# Altium footprint library WE-SPE.PcbLib: 2 footprints
Each footprint in its own frame and in the unit in brackets; x right, y up, seen from the top. Pads: shape width x height; smd on the part's side, far side on the other; paste and mask are expansions set on the pad; w line width, h text height; cw(c..) or ccw(c..) is an arc to the next point about the centre after c.
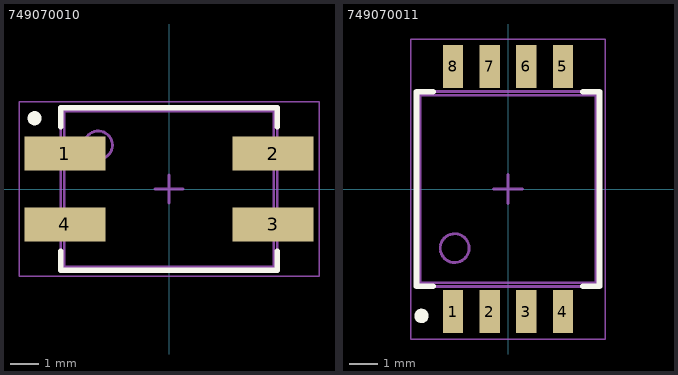
[diagram p0: the footprints below, top view; thin cyan lines are the x and y axes]

## 749070010 [mm] "Single Pair Ethernet"
height 4.6
pads (4):
  rect 2.85x1.2 smd: 1(-3.675,1.25) 2(3.675,1.25) 3(3.675,-1.25) 4(-3.675,-1.25)
Top Overlay:
  circle w0.25: c-4.75,2.5 r0.125
  lines w0.2: -3.825,-2.2 -3.825,-2.875 3.825,-2.875 3.825,-2.2 ; -3.825,2.2 -3.825,2.875 3.825,2.875 3.825,2.2
Top Assembly:
  circle w0.1: c-2.5,1.55 r0.5
  lines w0.1: -3.825,-2.875 3.825,-2.875 3.825,2.875 -3.825,2.875 -3.825,-2.875
Top Designator:
  text ".Designator" at -3.647,-0.357 h1
Top 3D Body:
  circle w0.1: c-2.5,1.55 r0.5
  lines w0.1: -3.7,-2.75 3.7,-2.75 3.7,2.75 -3.7,2.75 -3.7,-2.75
Top Courtyard:
  lines w0.05: -5.3,-3.075 5.3,-3.075 5.3,3.075 -5.3,3.075 -5.3,-3.075
Top Component Center:
  lines w0.1: -0.5,0 0.5,0 ; 0,-0.5 0,0.5
3D body "749070010.stp": height 4.67, standoff 0.02, extent -4.425,-2.75 4.425,2.75

## 749070011 [mm] "Single Pair Ethernet"
height 5.46
pads (8):
  rect 0.7x1.5 smd: 1(-1.905,-4.25) 2(-0.635,-4.25) 3(0.635,-4.25) 4(1.905,-4.25) 5(1.905,4.25) 6(0.635,4.25) 7(-0.635,4.25) 8(-1.905,4.25)
Top Overlay:
  circle w0.25: c-3,-4.4 r0.125
  lines w0.2: -2.6,-3.375 -3.175,-3.375 -3.175,3.375 -2.6,3.375 ; 2.6,-3.375 3.175,-3.375 3.175,3.375 2.6,3.375
Top Assembly:
  circle w0.1: c-1.85,-2.05 r0.5
  lines w0.1: -3.175,-3.375 -3.175,3.375 3.175,3.375 3.175,-3.375 -3.175,-3.375
Top Designator:
  text ".Designator" at -3.647,-0.357 h1
Top 3D Body:
  circle w0.1: c-1.85,-2.05 r0.5
  lines w0.1: -3.05,-3.25 -3.05,3.25 3.05,3.25 3.05,-3.25 -3.05,-3.25
Top Courtyard:
  lines w0.05: -3.375,-5.2 -3.375,5.2 3.375,5.2 3.375,-5.2 -3.375,-5.2
Top Component Center:
  lines w0.1: -0.5,0 0.5,0 ; 0,-0.5 0,0.5
3D body "749070011.stp": height 5.43, standoff -0.03, extent -3.05,-4.525 3.05,4.525